# EAGLE library part LTC3616 (library PowerProducts)
6A, 4MHz Monolithic Synchronous Step-Down DC/DC Converter
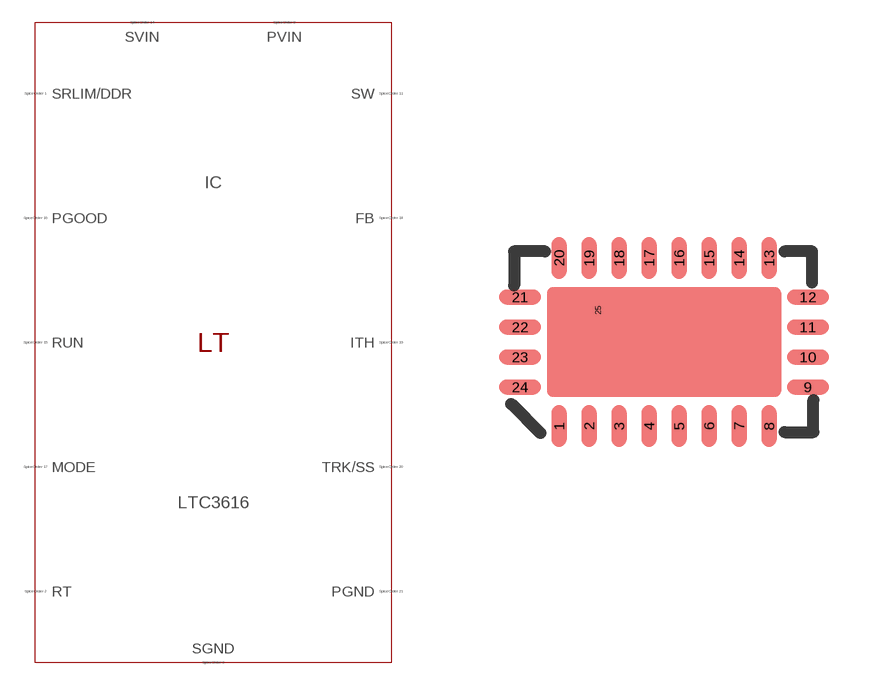
[diagram p267: symbol with the pads of QFN24(UDD); footprint QFN24(UDD)]

Designator prefix IC

## LTC3616 (SPICEMODEL: LTC3616.sub; SPICEPREFIX: X; VALUE2: LTC3616)  [QFN24(UDD)]
1  SRLIM/DDR  pas
2  RT  pas
3  SGND  pas
4  PVIN  pas
5  SW  pas
6  SW  pas
7  SW  pas
8  SW  pas
10  PVIN  pas
11  PVIN  pas
13  SW  pas
14  SW  pas
15  SW  pas
16  SW  pas
17  PVIN  pas
18  SVIN  pas
19  RUN  pas
20  PGOOD  pas
21  MODE  pas
22  FB  pas
23  ITH  pas
24  TRK/SS  pas
25  PGND  pas

## Footprint QFN24(UDD) (pad centres in mm)
Package generated from: QFN24(UDD).asc (!PADS-POWERPCB-V9.3-BASIC! DESIGN DATABASE ASCII FILE 1.0) with :import-pads-powerpcb-v5.ulp Version 1.0.1 at 04.10.2012 14:11:24
smd 0.375 x 1.05: 1 -2.625,-2.1; 2 -1.875,-2.1; 3 -1.125,-2.1; 4 -0.375,-2.1; 5 0.375,-2.1; 6 1.125,-2.1; 7 1.875,-2.1; 8 2.625,-2.1; 13 2.625,2.1; 14 1.875,2.1; 15 1.125,2.1; 16 0.375,2.1; 17 -0.375,2.1; 18 -1.125,2.1; 19 -1.875,2.1; 20 -2.625,2.1
smd 1.05 x 0.375: 9 3.6,-1.125; 10 3.6,-0.375; 11 3.6,0.375; 12 3.6,1.125; 21 -3.6,1.125; 22 -3.6,0.375; 23 -3.6,-0.375; 24 -3.6,-1.125
smd 0 x 0.375: 25 -1.65,0.795